# Altium footprint library LR78B.PcbLib: 16 footprints
Each footprint in its own frame and in the unit in brackets; x right, y up, seen from the top. Pads: shape width x height; smd on the part's side, far side on the other; paste and mask are expansions set on the pad; w line width, h text height; cw(c..) or ccw(c..) is an arc to the next point about the centre after c.
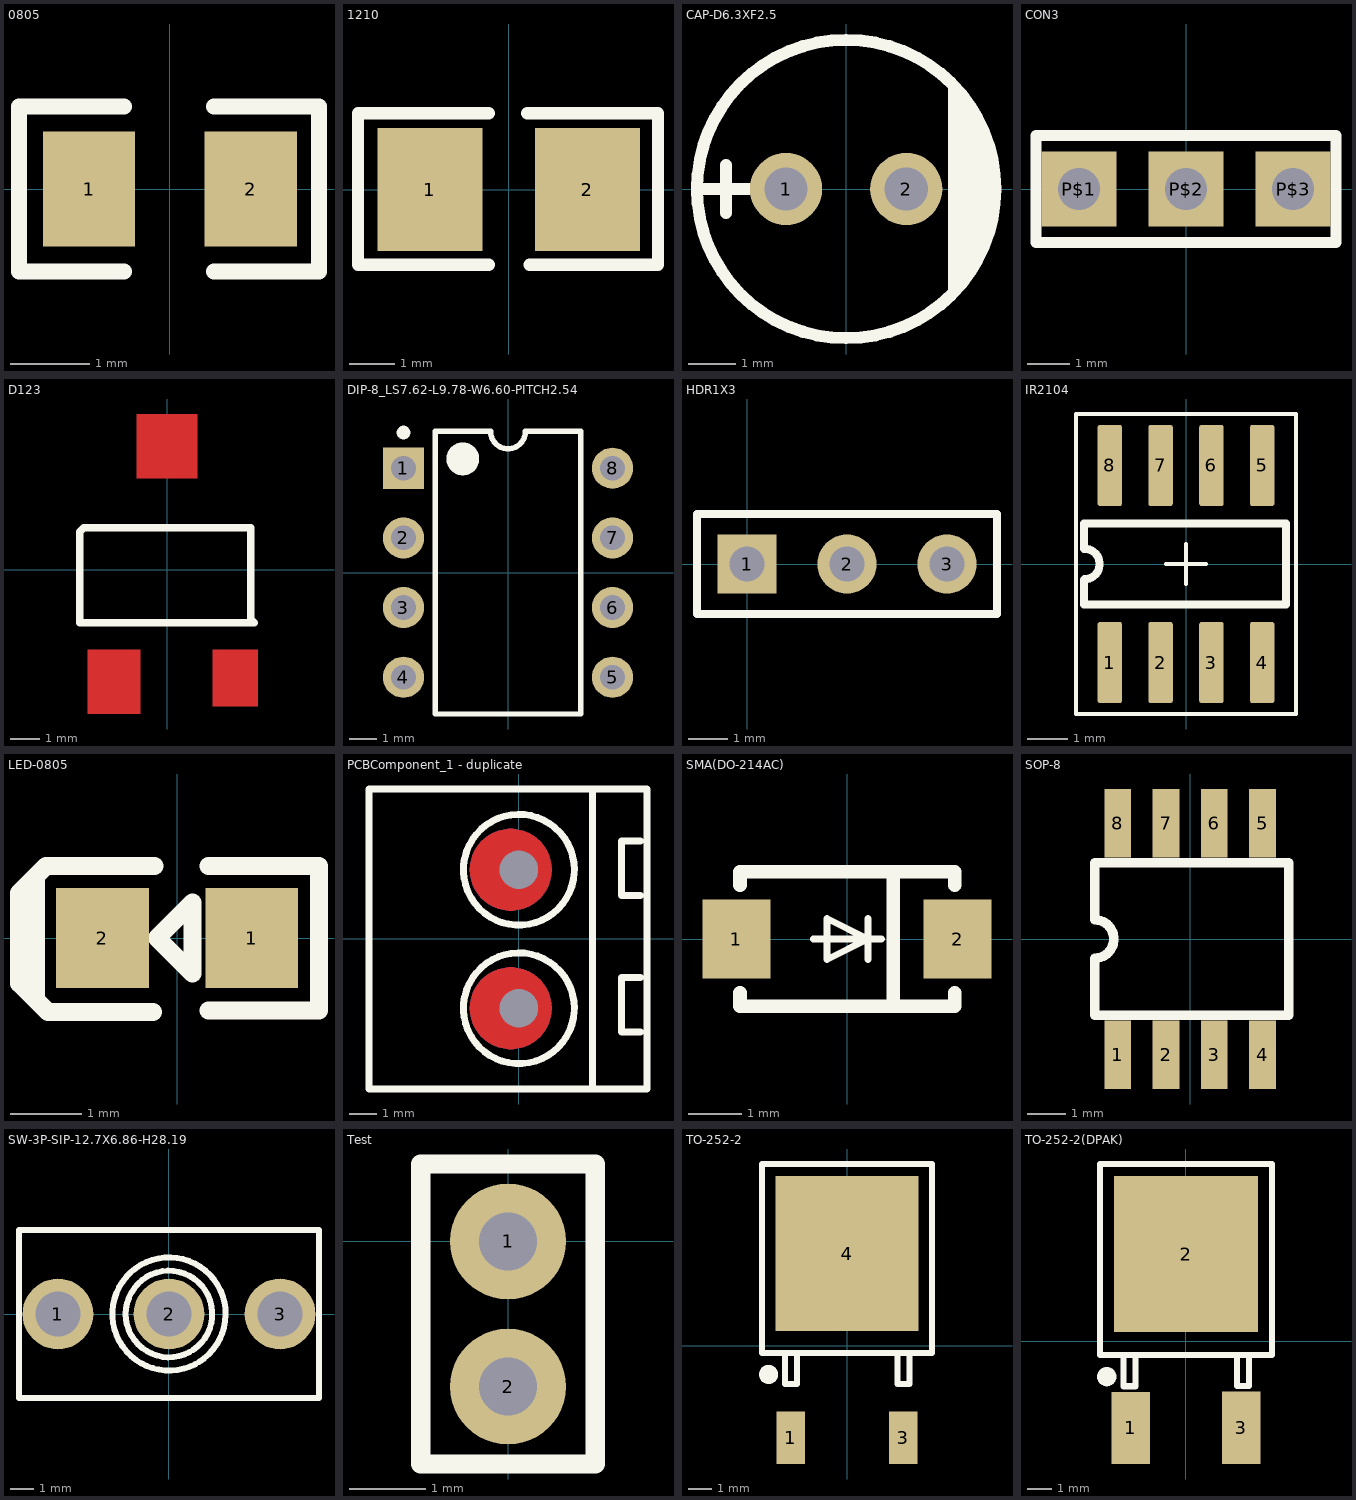
[diagram p0: the footprints below, top view; thin cyan lines are the x and y axes]

## 0805 [mm]
pads (2):
  rect 1.16x1.45 smd: 1(-1.016,0) 2(1.016,0)
Top Overlay:
  lines w0.2: -0.577,-1.035 -1.897,-1.035 -1.897,1.035 -0.577,1.035 ; 0.555,-1.035 1.875,-1.035 1.875,1.035 0.555,1.035

## 1210 [mil]
pads (2):
  rect 90.56x106.3 smd: 1(-68,0) 2(68,0)
Top Overlay:
  lines w10.63: -17,-65 -130,-65 -130,66 -17,66 ; 16,66 129,66 129,-65 18,-65 19,-65

## CAP-D6.3XF2.5 [mil]
pads (2):
  round 60 hole 36: 1(-50,0) 2(50,0)
Top Overlay:
  circle w10: c0,0 r124
  region: 85.03,90.03 89.75,86 102.15,71.49 112.12,55.22 119.42,37.58 123.88,19.03 125.37,0 123.88,-19.03 119.42,-37.58 112.12,-55.22 102.15,-71.49 89.75,-86 85.03,-90.03 85,-90
  lines w10: -120,0 -80,0 ; -100,-20 -100,20

## CON3 [mil]
pads (3):
  rect 70x70 hole 39.4: P$1(-100,0) P$2(0,0) P$3(100,0)
Top Overlay:
  lines w10: -140,-50 -140,50 140,50 140,-50 -140,-50

## D123 [mil]
Top Layer:
  rectangle: -40,120 40,205
  rectangle: -105,-190 -35,-105
  rectangle: 60,-180 120,-105
Top Overlay:
  lines w10: -115,-70 115,-70 110,-65 110,55 -110,55 -115,50 -115,-70

## DIP-8_LS7.62-L9.78-W6.60-PITCH2.54 [mm]
pads (8):
  rect 1.5x1.5 hole 0.9: 1(-3.81,3.81)
  round 1.5 hole 0.9: 2(-3.81,1.27) 3(-3.81,-1.27) 4(-3.81,-3.81) 5(3.81,-3.81) 6(3.81,-1.27) 7(3.81,1.27) 8(3.81,3.81)
Top Overlay:
  lines w0.2: -0.635,5.15 -2.65,5.15 -2.65,-5.15 2.65,-5.15 2.65,5.15 0.635,5.15 ; -0.635,5.151 ccw(c0,5.151) 0.635,5.151
  lines w0.25: -3.81,5.235 ccw(c-3.809,5.11) -3.807,5.235
  lines w0.6: -1.651,4.45 ccw(c-1.648,4.15) -1.646,4.45

## HDR1X3 [mm] "Connector; Header; 3 Position"
pads (3):
  rect 1.5x1.5 hole 0.9: 1(0,0)
  round 1.5 hole 0.9: 2(2.54,0) 3(5.08,0)
Top Overlay:
  lines w0.2: -1.27,-1.27 6.35,-1.27 6.35,1.27 -1.27,1.27 -1.27,-1.27

## IR2104 [mil]
pads (8):
  rrect20% 24x80 smd: 1(-75,-97) 2(-25,-97) 3(25,-97) 4(75,-97) 5(75,97) 6(25,97) 7(-25,97) 8(-75,97)
Top Overlay:
  lines w3.94: -19.68,0 19.69,0 ; 0,-19.68 0,19.68 ; -108.27,-147.64 -108.27,147.64 108.27,147.64 108.27,-147.64 -108.27,-147.64
  lines w7.87: -100.39,-40 98.43,-40 98.43,40 -100.39,40
  lines w8: -100.39,-40 -100.39,-15.55 ; -100.39,15 -100.39,40 ; -100,-15 ccw(c-100,0) -100,15

## LED-0805 [mil]
pads (2):
  rect 51.2x55.1 smd: 1(41.35,0) 2(-41.35,0)
Top Overlay:
  lines w10: -78.05,-31.55 -78.05,31.45 ; -13.55,-41.05 -71.55,-41.05 -87.55,-25.05 -87.55,24.95 -72.55,39.95 -12.55,39.95 ; 17.45,-40.05 78.45,-40.05 78.45,39.95 17.45,39.95 ; -11.15,-0.05 8.55,-19.75 8.55,19.65 -11.15,-0.05

## PCBComponent_1 - duplicate [mil]
pads (2):
  round 0 hole 55.12 slot 55.32 at 90 deg copper offset -11.8,-0.02: 1(0,100)
  round 0 hole 55.12 slot 55.32 at 90 deg copper offset -11.8,0.03: 2(0,-100)
Top Layer:
  region: 47.28,-99.97 46.78,-107.38 45.38,-114.67 43.08,-121.67 39.98,-128.47 35.98,-134.68 31.28,-140.38 25.88,-145.47 19.88,-149.88 13.38,-153.38 6.48,-156.18 -0.72,-157.97 -8.12,-158.88 -15.52,-158.88 -22.92,-157.97 -30.02,-156.18 -36.92,-153.38 -43.42,-149.88 -49.42,-145.47 -54.82,-140.38 -59.62,-134.68 -63.52,-128.47 -66.72,-121.67 -69.02,-114.67 -70.42,-107.38 -70.82,-99.97 -70.42,-92.58 -69.02,-85.28 -66.72,-78.28 -63.52,-71.58 -59.62,-65.28 -54.82,-59.58 -49.42,-54.48 -43.42,-50.08 -36.92,-46.58 -30.02,-43.77 -22.92,-41.98 -15.52,-41.08 -8.12,-41.08 -0.72,-41.98 6.48,-43.77 13.38,-46.58 19.88,-50.08 25.88,-54.48 31.28,-59.58 35.98,-65.28 39.98,-71.58 43.08,-78.28 45.38,-85.28 46.78,-92.58
  region: 47.28,99.92 46.78,92.53 45.38,85.33 43.08,78.22 39.98,71.53 35.98,65.22 31.28,59.52 25.88,54.42 19.88,50.12 13.38,46.52 6.48,43.83 -0.72,41.92 -8.12,41.02 -15.52,41.02 -22.92,41.92 -30.02,43.83 -36.92,46.52 -43.42,50.12 -49.42,54.42 -54.82,59.52 -59.62,65.22 -63.52,71.53 -66.72,78.22 -69.02,85.33 -70.42,92.53 -70.82,99.92 -70.42,107.33 -69.02,114.62 -66.72,121.72 -63.52,128.43 -59.62,134.72 -54.82,140.43 -49.42,145.43 -43.42,149.82 -36.92,153.43 -30.02,156.12 -22.92,158.03 -15.52,158.93 -8.12,158.93 -0.72,158.03 6.48,156.12 13.38,153.43 19.88,149.82 25.88,145.43 31.28,140.43 35.98,134.72 39.98,128.43 43.08,121.72 45.38,114.62 46.78,107.33
Bottom Layer:
  region: 47.28,-99.97 46.78,-107.38 45.38,-114.67 43.08,-121.67 39.98,-128.47 35.98,-134.68 31.28,-140.38 25.88,-145.47 19.88,-149.88 13.38,-153.38 6.48,-156.18 -0.72,-157.97 -8.12,-158.88 -15.52,-158.88 -22.92,-157.97 -30.02,-156.18 -36.92,-153.38 -43.42,-149.88 -49.42,-145.47 -54.82,-140.38 -59.62,-134.68 -63.52,-128.47 -66.72,-121.67 -69.02,-114.67 -70.42,-107.38 -70.82,-99.97 -70.42,-92.58 -69.02,-85.28 -66.72,-78.28 -63.52,-71.58 -59.62,-65.28 -54.82,-59.58 -49.42,-54.48 -43.42,-50.08 -36.92,-46.58 -30.02,-43.77 -22.92,-41.98 -15.52,-41.08 -8.12,-41.08 -0.72,-41.98 6.48,-43.77 13.38,-46.58 19.88,-50.08 25.88,-54.48 31.28,-59.58 35.98,-65.28 39.98,-71.58 43.08,-78.28 45.38,-85.28 46.78,-92.58
  region: 47.28,99.92 46.78,92.53 45.38,85.33 43.08,78.22 39.98,71.53 35.98,65.22 31.28,59.52 25.88,54.42 19.88,50.12 13.38,46.52 6.48,43.83 -0.72,41.92 -8.12,41.02 -15.52,41.02 -22.92,41.92 -30.02,43.83 -36.92,46.52 -43.42,50.12 -49.42,54.42 -54.82,59.52 -59.62,65.22 -63.52,71.53 -66.72,78.22 -69.02,85.33 -70.42,92.53 -70.82,99.92 -70.42,107.33 -69.02,114.62 -66.72,121.72 -63.52,128.43 -59.62,134.72 -54.82,140.43 -49.42,145.43 -43.42,149.82 -36.92,153.43 -30.02,156.12 -22.92,158.03 -15.52,158.93 -8.12,158.93 -0.72,158.03 6.48,156.12 13.38,153.43 19.88,149.82 25.88,145.43 31.28,140.43 35.98,134.72 39.98,128.43 43.08,121.72 45.38,114.62 46.78,107.33
Top Overlay:
  lines w10: 79.92,-103.58 cw(c0,-100) 80,-100.03 ; 79.92,96.42 cw(c0,100) 80,99.97 ; 106.28,-216.07 106.28,216.53 ; 175.78,-134.22 148.18,-134.22 148.18,-94.92 148.18,-55.52 175.78,-55.52 ; 175.78,62.58 148.18,62.58 148.18,101.97 148.18,141.38 175.78,141.38 ; -216.52,-216.57 185.08,-216.57 185.08,216.53 -216.52,216.53 -216.52,-216.57
Top Paste:
  region: 47.28,-99.97 46.78,-107.38 45.38,-114.67 43.08,-121.67 39.98,-128.47 35.98,-134.68 31.28,-140.38 25.88,-145.47 19.88,-149.88 13.38,-153.38 6.48,-156.18 -0.72,-157.97 -8.12,-158.88 -15.52,-158.88 -22.92,-157.97 -30.02,-156.18 -36.92,-153.38 -43.42,-149.88 -49.42,-145.47 -54.82,-140.38 -59.62,-134.68 -63.52,-128.47 -66.72,-121.67 -69.02,-114.67 -70.42,-107.38 -70.82,-99.97 -70.42,-92.58 -69.02,-85.28 -66.72,-78.28 -63.52,-71.58 -59.62,-65.28 -54.82,-59.58 -49.42,-54.48 -43.42,-50.08 -36.92,-46.58 -30.02,-43.77 -22.92,-41.98 -15.52,-41.08 -8.12,-41.08 -0.72,-41.98 6.48,-43.77 13.38,-46.58 19.88,-50.08 25.88,-54.48 31.28,-59.58 35.98,-65.28 39.98,-71.58 43.08,-78.28 45.38,-85.28 46.78,-92.58
  region: 47.28,99.92 46.78,92.53 45.38,85.33 43.08,78.22 39.98,71.53 35.98,65.22 31.28,59.52 25.88,54.42 19.88,50.12 13.38,46.52 6.48,43.83 -0.72,41.92 -8.12,41.02 -15.52,41.02 -22.92,41.92 -30.02,43.83 -36.92,46.52 -43.42,50.12 -49.42,54.42 -54.82,59.52 -59.62,65.22 -63.52,71.53 -66.72,78.22 -69.02,85.33 -70.42,92.53 -70.82,99.92 -70.42,107.33 -69.02,114.62 -66.72,121.72 -63.52,128.43 -59.62,134.72 -54.82,140.43 -49.42,145.43 -43.42,149.82 -36.92,153.43 -30.02,156.12 -22.92,158.03 -15.52,158.93 -8.12,158.93 -0.72,158.03 6.48,156.12 13.38,153.43 19.88,149.82 25.88,145.43 31.28,140.43 35.98,134.72 39.98,128.43 43.08,121.72 45.38,114.62 46.78,107.33
Bottom Paste:
  region: 47.28,-99.97 46.78,-107.38 45.38,-114.67 43.08,-121.67 39.98,-128.47 35.98,-134.68 31.28,-140.38 25.88,-145.47 19.88,-149.88 13.38,-153.38 6.48,-156.18 -0.72,-157.97 -8.12,-158.88 -15.52,-158.88 -22.92,-157.97 -30.02,-156.18 -36.92,-153.38 -43.42,-149.88 -49.42,-145.47 -54.82,-140.38 -59.62,-134.68 -63.52,-128.47 -66.72,-121.67 -69.02,-114.67 -70.42,-107.38 -70.82,-99.97 -70.42,-92.58 -69.02,-85.28 -66.72,-78.28 -63.52,-71.58 -59.62,-65.28 -54.82,-59.58 -49.42,-54.48 -43.42,-50.08 -36.92,-46.58 -30.02,-43.77 -22.92,-41.98 -15.52,-41.08 -8.12,-41.08 -0.72,-41.98 6.48,-43.77 13.38,-46.58 19.88,-50.08 25.88,-54.48 31.28,-59.58 35.98,-65.28 39.98,-71.58 43.08,-78.28 45.38,-85.28 46.78,-92.58
  region: 47.28,99.92 46.78,92.53 45.38,85.33 43.08,78.22 39.98,71.53 35.98,65.22 31.28,59.52 25.88,54.42 19.88,50.12 13.38,46.52 6.48,43.83 -0.72,41.92 -8.12,41.02 -15.52,41.02 -22.92,41.92 -30.02,43.83 -36.92,46.52 -43.42,50.12 -49.42,54.42 -54.82,59.52 -59.62,65.22 -63.52,71.53 -66.72,78.22 -69.02,85.33 -70.42,92.53 -70.82,99.92 -70.42,107.33 -69.02,114.62 -66.72,121.72 -63.52,128.43 -59.62,134.72 -54.82,140.43 -49.42,145.43 -43.42,149.82 -36.92,153.43 -30.02,156.12 -22.92,158.03 -15.52,158.93 -8.12,158.93 -0.72,158.03 6.48,156.12 13.38,153.43 19.88,149.82 25.88,145.43 31.28,140.43 35.98,134.72 39.98,128.43 43.08,121.72 45.38,114.62 46.78,107.33
Top Solder:
  region: 47.28,-99.97 46.78,-107.38 45.38,-114.67 43.08,-121.67 39.98,-128.47 35.98,-134.68 31.28,-140.38 25.88,-145.47 19.88,-149.88 13.38,-153.38 6.48,-156.18 -0.72,-157.97 -8.12,-158.88 -15.52,-158.88 -22.92,-157.97 -30.02,-156.18 -36.92,-153.38 -43.42,-149.88 -49.42,-145.47 -54.82,-140.38 -59.62,-134.68 -63.52,-128.47 -66.72,-121.67 -69.02,-114.67 -70.42,-107.38 -70.82,-99.97 -70.42,-92.58 -69.02,-85.28 -66.72,-78.28 -63.52,-71.58 -59.62,-65.28 -54.82,-59.58 -49.42,-54.48 -43.42,-50.08 -36.92,-46.58 -30.02,-43.77 -22.92,-41.98 -15.52,-41.08 -8.12,-41.08 -0.72,-41.98 6.48,-43.77 13.38,-46.58 19.88,-50.08 25.88,-54.48 31.28,-59.58 35.98,-65.28 39.98,-71.58 43.08,-78.28 45.38,-85.28 46.78,-92.58
  region: 47.28,99.92 46.78,92.53 45.38,85.33 43.08,78.22 39.98,71.53 35.98,65.22 31.28,59.52 25.88,54.42 19.88,50.12 13.38,46.52 6.48,43.83 -0.72,41.92 -8.12,41.02 -15.52,41.02 -22.92,41.92 -30.02,43.83 -36.92,46.52 -43.42,50.12 -49.42,54.42 -54.82,59.52 -59.62,65.22 -63.52,71.53 -66.72,78.22 -69.02,85.33 -70.42,92.53 -70.82,99.92 -70.42,107.33 -69.02,114.62 -66.72,121.72 -63.52,128.43 -59.62,134.72 -54.82,140.43 -49.42,145.43 -43.42,149.82 -36.92,153.43 -30.02,156.12 -22.92,158.03 -15.52,158.93 -8.12,158.93 -0.72,158.03 6.48,156.12 13.38,153.43 19.88,149.82 25.88,145.43 31.28,140.43 35.98,134.72 39.98,128.43 43.08,121.72 45.38,114.62 46.78,107.33
Bottom Solder:
  region: 47.28,-99.97 46.78,-107.38 45.38,-114.67 43.08,-121.67 39.98,-128.47 35.98,-134.68 31.28,-140.38 25.88,-145.47 19.88,-149.88 13.38,-153.38 6.48,-156.18 -0.72,-157.97 -8.12,-158.88 -15.52,-158.88 -22.92,-157.97 -30.02,-156.18 -36.92,-153.38 -43.42,-149.88 -49.42,-145.47 -54.82,-140.38 -59.62,-134.68 -63.52,-128.47 -66.72,-121.67 -69.02,-114.67 -70.42,-107.38 -70.82,-99.97 -70.42,-92.58 -69.02,-85.28 -66.72,-78.28 -63.52,-71.58 -59.62,-65.28 -54.82,-59.58 -49.42,-54.48 -43.42,-50.08 -36.92,-46.58 -30.02,-43.77 -22.92,-41.98 -15.52,-41.08 -8.12,-41.08 -0.72,-41.98 6.48,-43.77 13.38,-46.58 19.88,-50.08 25.88,-54.48 31.28,-59.58 35.98,-65.28 39.98,-71.58 43.08,-78.28 45.38,-85.28 46.78,-92.58
  region: 47.28,99.92 46.78,92.53 45.38,85.33 43.08,78.22 39.98,71.53 35.98,65.22 31.28,59.52 25.88,54.42 19.88,50.12 13.38,46.52 6.48,43.83 -0.72,41.92 -8.12,41.02 -15.52,41.02 -22.92,41.92 -30.02,43.83 -36.92,46.52 -43.42,50.12 -49.42,54.42 -54.82,59.52 -59.62,65.22 -63.52,71.53 -66.72,78.22 -69.02,85.33 -70.42,92.53 -70.82,99.92 -70.42,107.33 -69.02,114.62 -66.72,121.72 -63.52,128.43 -59.62,134.72 -54.82,140.43 -49.42,145.43 -43.42,149.82 -36.92,153.43 -30.02,156.12 -22.92,158.03 -15.52,158.93 -8.12,158.93 -0.72,158.03 6.48,156.12 13.38,153.43 19.88,149.82 25.88,145.43 31.28,140.43 35.98,134.72 39.98,128.43 43.08,121.72 45.38,114.62 46.78,107.33

## SMA(DO-214AC) [mil]
pads (2):
  rect 50x57.9 smd: 1(-81,0) 2(81,0)
Top Overlay:
  lines w5: -24.7,0 25.3,0 ; 15.3,-15 15.3,0 ; 15.3,15 15.3,0 ; 15.3,0 -14.7,15 -14.7,0 -14.7,-15 15.3,0
  lines w10: -78.4,-39.37 -78.4,-49.2 79,-49.2 79,-39.37 ; -78.4,39.37 -78.4,49.2 79,49.2 79,39.37 ; 34,-49 34,49

## SOP-8 [mil]
pads (8):
  rect 27.6x70.86 smd: 1(-75,-120) 2(-25,-120) 3(25,-120) 4(75,-120) 5(75,120) 6(25,120) 7(-25,120) 8(-75,120)
Top Overlay:
  lines w10: -99,-79.05 -99,-20 ccw(c-99,0) -99,20 ; -99,19.95 -99,79 ; -98.79,-79 102,-79 ; -98.58,79 102.21,79 ; 102.21,-78.85 102.21,78.63

## SW-3P-SIP-12.7X6.86-H28.19 [mm]
pads (3):
  round 3 hole 1.9: 1(-4.7,0) 2(0,0) 3(4.7,0)
Top Overlay:
  lines w0.254: 0.868,-1.613 cw(c0,0) 1.016,-1.524 ; 1.121,-2.118 cw(c0,0) 1.27,-2.032 ; -6.35,-3.556 -6.35,3.556 6.35,3.556 6.35,-3.556 -6.35,-3.556

## Test [mil]
pads (2):
  round 60 hole 30: 1(0,0) 2(0,-75)
Top Overlay:
  lines w10: -45,20 -45,40 45,40 45,-115 -45,-115 -45,35

## TO-252-2 [mil]
pads (3):
  rect 47.24x86.62 smd: 1(-93,-152.6) 3(93,-152.4)
  rect 236.22x255.9 smd: 4(0,152.6)
Top Overlay:
  lines w10: -102.36,-12.16 -102.36,-63.34 -82.68,-63.34 -82.68,-12.16 ; 83.56,-12 83.56,-63.18 103.25,-63.18 103.25,-12 ; -140.67,-12.16 140.67,-12.16 140.67,300.83 -140.67,300.83 -140.67,-12.16
  lines w15.75: -122,-47.7 cw(c-129.87,-47.65) -122,-47.6

## TO-252-2(DPAK) [mil]
pads (3):
  rect 63x118.1 smd: 1(-90.53,-142.4)
  rect 236.2x255.9 smd: 2(0.03,142.4)
  rect 63x118.2 smd: 3(90.53,-142.15)
Top Overlay:
  lines w10: -102.33,-22.91 -102.33,-74.09 -82.66,-74.09 -82.66,-22.91 ; 83.58,-22.75 83.58,-73.93 103.28,-73.93 103.28,-22.75 ; -140.65,-22.91 140.69,-22.91 140.69,290.08 -140.65,290.08 -140.65,-22.91
  lines w15.75: -121.97,-58.45 cw(c-129.85,-58.4) -121.97,-58.35